# Altium footprint library TE_1-2307729-4.PcbLib: 1 footprints
Each footprint in its own frame and in the unit in brackets; x right, y up, seen from the top. Pads: shape width x height; smd on the part's side, far side on the other; paste and mask are expansions set on the pad; w line width, h text height; cw(c..) or ccw(c..) is an arc to the next point about the centre after c.
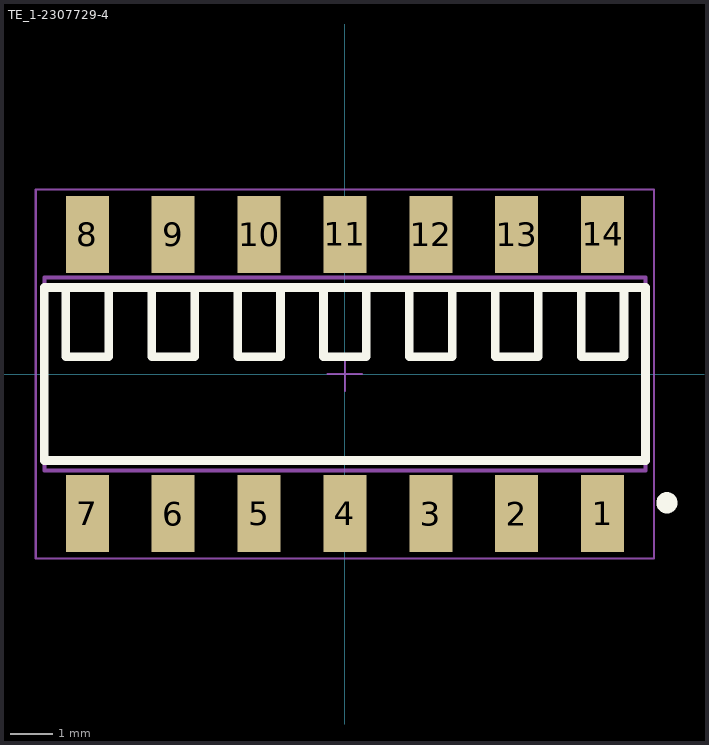
[diagram p0: the footprint, top view; thin cyan lines are the x and y axes]

## TE_1-2307729-4 [mm] "TE_1-2307729-4"
height 4.1
pads (14):
  rect 1x1.8 smd mask+0.05: 1(6,-3.25) 2(4,-3.25) 3(2,-3.25) 4(0,-3.25) 5(-2,-3.25) 6(-4,-3.25) 7(-6,-3.25) 8(-6,3.25) 9(-4,3.25) 10(-2,3.25) 11(0,3.25) 12(2,3.25) 13(4,3.25) 14(6,3.25)
Top Overlay:
  circle w0.25: c7.5,-3 r0.122
  lines w0.2: -6.5,2.014 -6.5,0.4 -5.5,0.4 -5.5,2.014 ; -4.5,2.014 -4.5,0.4 -3.5,0.4 -3.5,2.014 ; -2.5,2.014 -2.5,0.4 -1.5,0.4 -1.5,2.014 ; -0.5,2.014 -0.5,0.4 0.5,0.4 0.5,2.014 ; 1.5,2.014 1.5,0.4 2.5,0.4 2.5,2.014 ; 3.5,2.014 3.5,0.4 4.5,0.4 4.5,2.014 ; 5.5,2.014 5.5,0.4 6.5,0.4 6.5,2.014 ; -7,-2.014 7,-2.014 7,2.014 -7,2.014 -7,-2.014
Top 3D Body:
  lines w0.1: -7,-2.25 7,-2.25 7,2.25 -7,2.25 -7,-2.25
Top Courtyard (Mech15):
  lines w0.05: -0.4,0 0.4,0 ; 0,-0.4 0,0.4 ; -7.2,-4.3 -7.2,4.3 7.2,4.3 7.2,-4.3 -7.2,-4.3
3D body "TE_1-2307729-4.stp": height 4.38, standoff 0.02, extent -7,-3.65 7,3.65